# EAGLE library part RABBIT_RCM4200 (library QuantumOptics)
RCM4200 Rabbit core module Must order connector Samtec SFM(L)-125-01-S-D (if no -125- use -130 30-position and cut short).
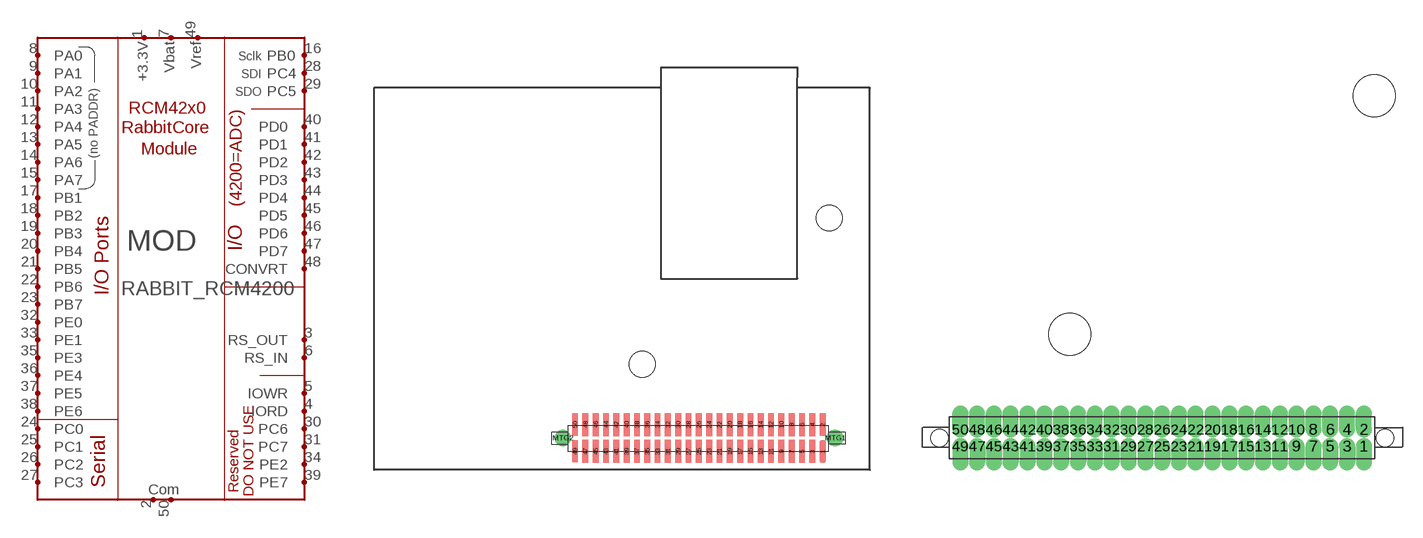
[diagram p108: symbol with the pads of RABBIT_RCM42XX(SMT1); footprints RABBIT_RCM42XX(SMT1), RABBIT_RCM42XX(THRU)]

Designator prefix MOD

## RABBIT_RCM4200-SMT1  [RABBIT_RCM42XX(SMT1)]
1  +3.3V
2  COM1
3  RS_OUT  out
4  IORD  in
5  IOWR  out
6  RS_IN  in
7  VBAT
8  PA0
9  PA1
10  PA2
11  PA3
12  PA4
13  PA5
14  PA6
15  PA7
16  PB0
17  PB1  out
18  PB2
19  PB3
20  PB4
21  PB5
22  PB6
23  PB7
24  PC0
25  PC1
26  PC2
27  PC3
28  PC4
29  PC5
30  PC6  nc
31  PC7
32  PE0
33  PE1
34  PE2  nc
35  PE3
36  PE4
37  PE5  nc
38  PE6  nc
39  PE7  nc
40  PD0
41  PD1
42  PD2
43  PD3
44  PD4
45  PD5
46  PD6
47  PD7
48  CONVRT
49  VREF
50  COM2

## RABBIT_RCM4200-THROUGH  [RABBIT_RCM42XX(THRU)]
Pads as for RABBIT_RCM42XX(SMT1)

## Footprint RABBIT_RCM42XX(SMT1) (pad centres in mm)
RCM42xx Rabbit module, really just an SMT 1x25 1.27mm connector such as Tyco/Amp 5-104652-5. WARNING! Dimensions are not verified! Refer to documentation or through-hole version. Location of pin 1 is correct.
smd 0.8 x 2.8: 1 55.22,2.172; 2 55.22,5.474; 3 53.95,2.172; 4 53.95,5.474; 5 52.68,2.172; 6 52.68,5.474; 7 51.41,2.172; 8 51.41,5.474; 9 50.14,2.172; 10 50.14,5.474; 11 48.87,2.172; 12 48.87,5.474; 13 47.6,2.172; 14 47.6,5.474; 15 46.33,2.172; 16 46.33,5.474; 17 45.06,2.172; 18 45.06,5.474; 19 43.79,2.172; 20 43.79,5.474; 21 42.52,2.172; 22 42.52,5.474; 23 41.25,2.172; 24 41.25,5.474; 25 39.98,2.172; 26 39.98,5.474; 27 38.71,2.172; 28 38.71,5.474; 29 37.44,2.172; 30 37.44,5.474; 31 36.17,2.172; 32 36.17,5.474; 33 34.9,2.172; 34 34.9,5.474; 35 33.63,2.172; 36 33.63,5.474; 37 32.36,2.172; 38 32.36,5.474; 39 31.09,2.172; 40 31.09,5.474; 41 29.82,2.172; 42 29.82,5.474; 43 28.55,2.172; 44 28.55,5.474; 45 27.28,2.172; 46 27.28,5.474; 47 26.01,2.172; 48 26.01,5.474; 49 24.74,2.172; 50 24.74,5.474
drill 1.321: MTG1 56.744,3.823; MTG2 23.216,3.823
hole 3.175 at 56.02,30.902
hole 3.175 at 33.02,12.902

## Footprint RABBIT_RCM42XX(THRU) (pad centres in mm)
RCM42xx Rabbit module, really just a 1x25 1.27mm connector such as Samtec SFM(L)-125-01-S-D (if no -125- use -130 30-position and cut short).
drill 0.711 pad 1.079 offset: 1 55.225,3.193; 2 55.225,4.463; 3 53.955,3.193; 4 53.955,4.463; 5 52.685,3.193; 6 52.685,4.463; 7 51.415,3.193; 8 51.415,4.463; 9 50.145,3.193; 10 50.145,4.463; 11 48.875,3.193; 12 48.875,4.463; 13 47.605,3.193; 14 47.605,4.463; 15 46.335,3.193; 16 46.335,4.463; 17 45.065,3.193; 18 45.065,4.463; 19 43.795,3.193; 20 43.795,4.463; 21 42.525,3.193; 22 42.525,4.463; 23 41.255,3.193; 24 41.255,4.463; 25 39.985,3.193; 26 39.985,4.463; 27 38.715,3.193; 28 38.715,4.463; 29 37.445,3.193; 30 37.445,4.463; 31 36.175,3.193; 32 36.175,4.463; 33 34.905,3.193; 34 34.905,4.463; 35 33.635,3.193; 36 33.635,4.463; 37 32.365,3.193; 38 32.365,4.463; 39 31.095,3.193; 40 31.095,4.463; 41 29.825,3.193; 42 29.825,4.463; 43 28.555,3.193; 44 28.555,4.463; 45 27.285,3.193; 46 27.285,4.463; 47 26.015,3.193; 48 26.015,4.463; 49 24.745,3.193; 50 24.745,4.463
hole 3.175 at 56.02,29.654
hole 3.175 at 33.02,11.654
hole 1.321 at 23.157,3.823
hole 1.321 at 56.812,3.823